# Altium integrated library LTC1196-1BCS8_PBF.IntLib: 1 symbol
Pins are listed as number, name and electrical type; pins without a type are passive.

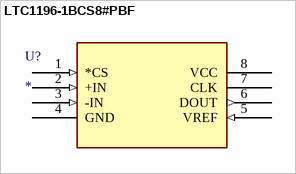
[diagram p0: symbol LTC1196-1BCS8#PBF]

## LTC1196-1BCS8#PBF
designator U?
8-Bit, SO-8, 1Msps ADCs with Auto-Shutdown Options; MP: LTC1196-1BCS8#PBF; MF: Analog Devices; Check_prices: https://www.snapeda.com/parts/LTC1196-1BCS8%23PBF/Analog+Devices/view-part/?ref=eda; Purchase-URL: https://pricing.snapeda.com/search/part/LTC1196-1BCS8#PBF/?ref=eda; Package: SOIC -8 Analog Devices; Value: *; Availability: In Stock; SnapEDA_Link: https://www.snapeda.com/parts/LTC1196-1BCS8%23PBF/Analog+Devices/view-part/?ref=snap; Price: None
footprint SO-8_S
pins: 1 *CS (in), 2 +IN (in), 3 -IN (in), 4 GND (power), 5 VREF (in), 6 DOUT (out), 7 CLK, 8 VCC (power)